# Altium footprint library RES-PRESET-3296.PcbLib: 1 footprints
Each footprint in its own frame and in the unit in brackets; x right, y up, seen from the top. Pads: shape width x height; smd on the part's side, far side on the other; paste and mask are expansions set on the pad; w line width, h text height; cw(c..) or ccw(c..) is an arc to the next point about the centre after c.
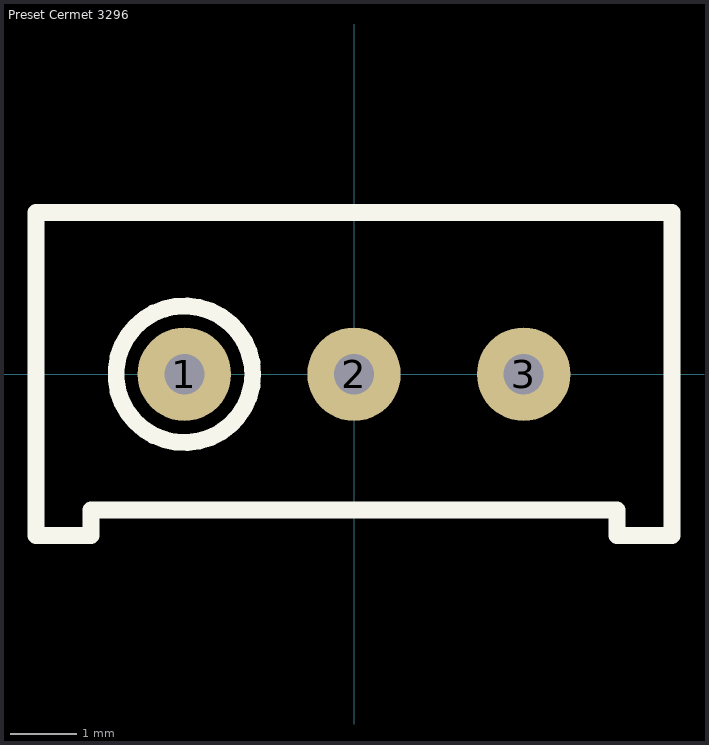
[diagram p0: the footprint, top view; thin cyan lines are the x and y axes]

## Preset Cermet 3296 [mm] "Preset Cermet 3296"
pads (3):
  round 1.4 hole 0.6: 1(-2.54,0) 2(0,0) 3(2.54,0)
Top Overlay:
  circle w0.254: c-2.54,0 r1.024
  lines w0.254: -4.765,-2.413 -4.765,2.42 4.765,2.42 4.765,-2.413 3.937,-2.413 3.937,-2.032 -3.937,-2.032 -3.937,-2.413 -4.765,-2.413
3D body "RES-PRESET-3296W.STEP": height 11.55, standoff -2.6, extent -4.765,-2.415 4.765,2.415